# Altium footprint library pcblibpreamp.PcbLib: 4 footprints
Each footprint in its own frame and in the unit in brackets; x right, y up, seen from the top. Pads: shape width x height; smd on the part's side, far side on the other; paste and mask are expansions set on the pad; w line width, h text height; cw(c..) or ccw(c..) is an arc to the next point about the centre after c.
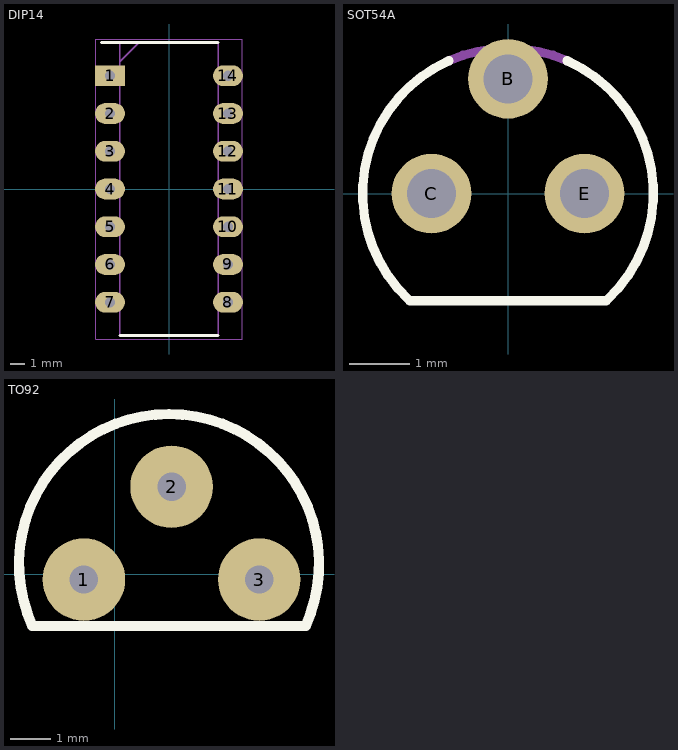
[diagram p0: the footprints below, top view; thin cyan lines are the x and y axes]

## DIP14 [mm]
pads (14):
  rect 2x1.4 hole 0.7: 1(-3.97,7.62)
  oval 2x1.4 hole 0.7: 2(-3.97,5.08) 3(-3.97,2.54) 4(-3.97,0) 5(-3.97,-2.54) 6(-3.97,-5.08) 7(-3.97,-7.62) 8(3.97,-7.62) 9(3.97,-5.08) 10(3.97,-2.54) 11(3.97,0) 12(3.97,2.54) 13(3.97,5.08) 14(3.97,7.62)
Top Overlay:
  lines w0.2: -4.535,9.845 3.3,9.845 ; -3.3,-9.845 3.3,-9.845
Mechanical 15:
  lines w0.1: -3.3,8.575 -2.03,9.845 ; -3.3,-9.845 3.3,-9.845 3.3,9.845 -3.3,9.845 -3.3,-9.845
Mechanical 20:
  lines w0.05: -4.945,-10.095 4.945,-10.095 4.945,10.095 -4.945,10.095 -4.945,-10.095

## PCBComponent_1 [mil]

## SOT54A [mil]
pads (3):
  round 52 hole 32: B(0,75) C(-50,0) E(50,0)
Top Overlay:
  lines w6: -64.78,-69.48 cw(c0.01,0) -38.63,86.79 ; -64.21,-70 64.21,-70 ; 38.63,86.79 cw(c-0.01,0) 64.78,-69.48
Mechanical 13:
  lines w6: -38.64,86.79 cw(c0,0) 38.64,86.79
3D body "step_temp.STEP": height 304.72, standoff -65.35, extent -94.45,-60.35 94.45,94.49

## TO92 [mil]
pads (3):
  round 80 hole 27.56: 1(-30,-5) 2(55,85) 3(140,-5)
Top Overlay:
  lines w10: -80,-50 cw(c52.5,10.06) 185,-50 95,-50 5,-50 -80,-50
3D body: height 10, standoff 0, extent -55,-85.04 145,114.96